# EAGLE library part MCP1725-ADJE/SN (library MCP1725-ADJE_SN)
Check availability <https://pricing.snapeda.com/parts/MCP1725-ADJE/SN/Microchip/view-part?ref=eda>
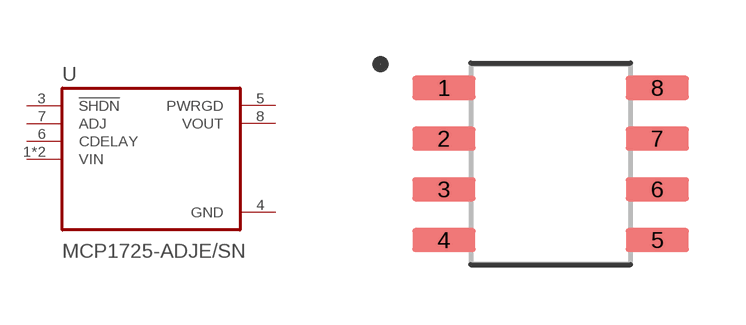
[diagram p0: symbol with the pads of SOIC127P599X175-8N; footprint SOIC127P599X175-8N]

Designator prefix -

## MCP1725-ADJE/SN (Availability: In Stock; Description: Linear Voltage Regulator IC Positive Adjustable 1 Output 500mA 8-SOIC; MF: Microchip; MP: MCP1725-ADJE/SN; Package: SOIC-8 Microchip; Price: None; Purchase-URL: https://pricing.snapeda.com/search/part/MCP1725-ADJE/SN/?ref=eda)  [SOIC127P599X175-8N]
1  VIN  in
2  VIN  in
3  !SHDN  in
4  GND  pwr
5  PWRGD  out
6  CDELAY  in
7  ADJ  in
8  VOUT  out

## Footprint SOIC127P599X175-8N (pad centres in mm)
smd 1.58 x 0.6: 1 -2.67,1.905; 2 -2.67,0.635; 3 -2.67,-0.635; 4 -2.67,-1.905; 5 2.67,-1.905; 6 2.67,-0.635; 7 2.67,0.635; 8 2.67,1.905